# EAGLE library part 4_18650_HOLDER (library custom)
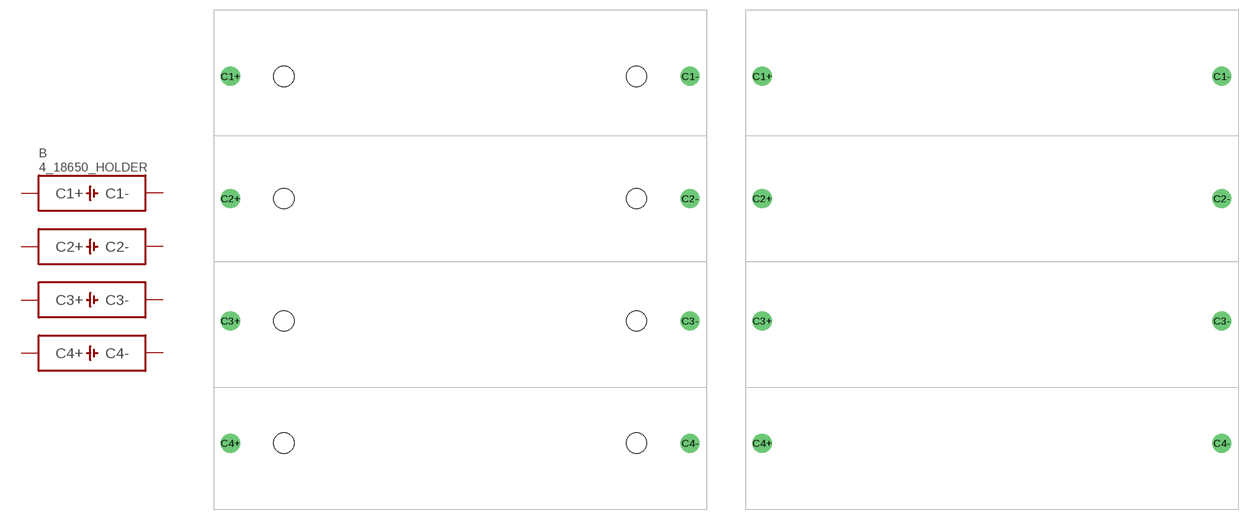
[diagram p131: symbol with the pads of 4S_18650_HOLDER; footprints 4S_18650_HOLDER, 4S_18650_HOLDER_NH]

Designator prefix B

## 4_18650_HOLDERHOLES  [4S_18650_HOLDER]
C1+  C1+
C1-  C1-
C2+  C2+
C2-  C2-
C3+  C3+
C3-  C3-
C4+  C4+
C4-  C4-

## 4_18650_HOLDER  [4S_18650_HOLDER_NH]
Pads as for 4S_18650_HOLDER

## Footprint 4S_18650_HOLDER (pad centres in mm)
drill 1.6 pad 3: C1+ -36.25,19.3; C1- 36.25,19.3; C2+ -36.25,0; C2- 36.25,0; C3+ -36.25,-19.3; C3- 36.25,-19.3; C4+ -36.25,-38.6; C4- 36.25,-38.6
hole 3.2 at -27.81,19.3
hole 3.2 at -27.81,0
hole 3.2 at -27.81,-19.3
hole 3.2 at 27.81,-19.3
hole 3.2 at 27.81,0
hole 3.2 at 27.81,19.3
hole 3.2 at -27.81,-38.6
hole 3.2 at 27.81,-38.6

## Footprint 4S_18650_HOLDER_NH (pad centres in mm)
drill 1.6 pad 3: C1+ -36.25,19.3; C1- 36.25,19.3; C2+ -36.25,0; C2- 36.25,0; C3+ -36.25,-19.3; C3- 36.25,-19.3; C4+ -36.25,-38.6; C4- 36.25,-38.6